# Altium schematic symbol library Relay.SchLib: 2 symbols
Pins are listed as number, name and electrical type; pins without a type are passive.

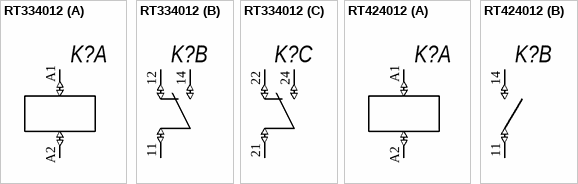
[diagram p0: symbols RT334012 to RT424012]

## RT334012
designator K?
part A pins: A1 (io), A2 (io)
part B pins: 11 (io), 12 (io), 14 (io)
part C pins: 21 (io), 22 (io), 24 (io)

## RT424012
designator K?
part A pins: A1 (io), A2 (io)
part B pins: 11 (io), 14 (io)